# Altium footprint library SPT3G_AdapterBoard.PcbLib: 7 footprints
Each footprint in its own frame and in the unit in brackets; x right, y up, seen from the top. Pads: shape width x height; smd on the part's side, far side on the other; paste and mask are expansions set on the pad; w line width, h text height; cw(c..) or ccw(c..) is an arc to the next point about the centre after c.
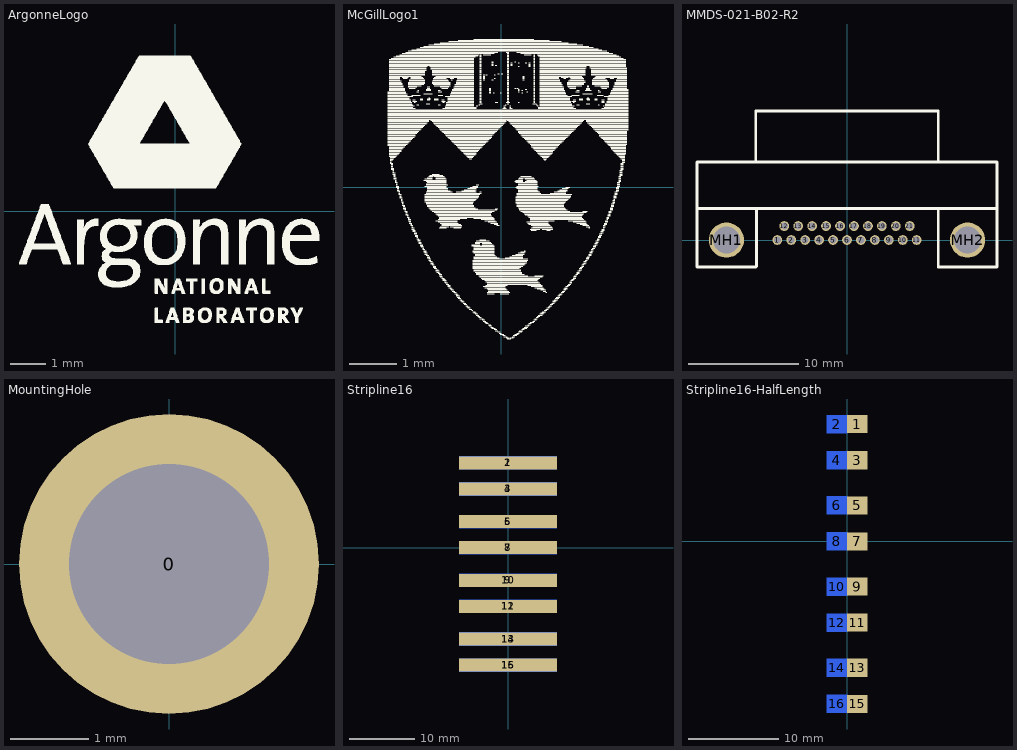
[diagram p0: the footprints below, top view; thin cyan lines are the x and y axes]

## ArgonneLogo [mm]
Top Overlay:
  drawing of 2632 lines, arcs and shapes, not listed

## McGillLogo1 [mm] "McGillLogo"
Top Overlay:
  drawing of 1109 lines, arcs and shapes, not listed

## MMDS-021-B02-R2 [mil] "Omnetrics21pinR2Tail"
pads (23):
  round 35 hole 25: 1(-250,0) 2(-200,0) 3(-150,0) 4(-100,0) 5(-50,0) 6(0,0) 7(50,0) 8(100,0) 9(150,0) 10(200,0) 11(250,0) 12(-225,50) 13(-175,50) 14(-125,50) 15(-75,50) 16(-25,50) 17(25,50) 18(75,50) 19(125,50) 20(175,50) 21(225,50)
  round 125.98 hole 96.06: MH1(-432.5,0) MH2(432.5,0)
Top Overlay:
  lines w1: -327.5,460.5 -325,463
  lines w10: -538,113 -325,113 ; -327.5,-97 -537.5,-97 -537.5,280 ; -327.5,460.5 -327.5,280 -537.5,280 ; -327.5,463 327.5,463 ; -325,-94.5 -325,113 ; 327.5,280 327.5,460.5 ; 538,113 327.5,113 ; -537.5,280 537.5,280 537.5,-97 327.5,-97 327.5,113 ; -325,113 327.5,113

## MountingHole [mm] "Mounting Hole"
pads (1):
  round 3.81 hole 2.54: 0(0,0)

## PCBComponent_1 [mm]

## Stripline16 [mm]
pads (16):
  rect 15x2 smd: 1(0,13) 3(0,9) 5(0,4) 7(0,0) 9(0,-5) 11(0,-9) 13(0,-14) 15(0,-18)
  rect 15x2 smd far side: 2(0,13) 4(0,9) 6(0,4) 8(0,0) 10(0,-5) 12(0,-9) 14(0,-14) 16(0,-18)

## Stripline16-HalfLength [mm]
pads (16):
  rect 2.25x2 smd: 1(1.125,13) 3(1.125,9) 5(1.125,4) 7(1.125,0) 9(1.125,-5) 11(1.125,-9) 13(1.125,-14) 15(1.125,-18)
  rect 2.25x2 smd far side: 2(-1.125,13) 4(-1.125,9) 6(-1.125,4) 8(-1.125,0) 10(-1.125,-5) 12(-1.125,-9) 14(-1.125,-14) 16(-1.125,-18)